# Altium integrated library lib_rohm.IntLib: 5 symbols
Pins are listed as number, name and electrical type; pins without a type are passive.

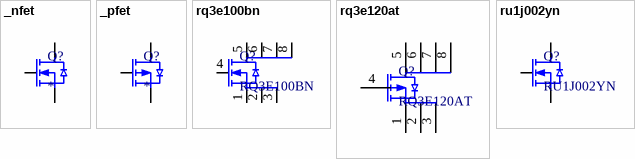
[diagram p0: symbols _nfet to ru1j002yn]

## _nfet
designator Q?
N-channel MOSFET
pins: D, G, S

## _pfet
designator Q?
P-channel MOSFET
pins: D, G, S

## rq3e100bn
designator Q?, comment RQ3E100BN
Nch 30V 21A Power MOSFET
footprint SON65P330X90-8N_RQ3E120AT (SON, 8-Leads, Body 3.30x3.30mm, Pitch 0.65mm, IPC Medium Density)
pins: 1, 2, 3, 4, 5, 6, 7, 8

## rq3e120at
designator Q?, comment RQ3E120AT
Pch -30V -39A Power MOSFET; ComponentLink1Description: Datasheet; ComponentLink1URL: *
footprint SON65P330X90-8N_RQ3E120AT (SON, 8-Leads, Body 3.30x3.30mm, Pitch 0.65mm, IPC Medium Density)
pins: 1, 2, 3, 4, 5, 6, 7, 8

## ru1j002yn
designator Q?, comment RU1J002YN
N-channel 50V 200mA Small signal MOSFET; ComponentLink1Description: datasheet; ComponentLink1URL: https://www.mouser.se/datasheet/2/348/ru1j002yn-e-1018335.pdf
footprint SOTFL65P210X105-3N (SOTFL, 3-Leads, Body 2,00x2,10mm, Pitch 0,65mm, IPC Medium Density)
pins: 1 G, 2 S, 3 D